# Altium footprint library Modules.PcbLib: 8 footprints
Each footprint in its own frame and in the unit in brackets; x right, y up, seen from the top. Pads: shape width x height; smd on the part's side, far side on the other; paste and mask are expansions set on the pad; w line width, h text height; cw(c..) or ccw(c..) is an arc to the next point about the centre after c.
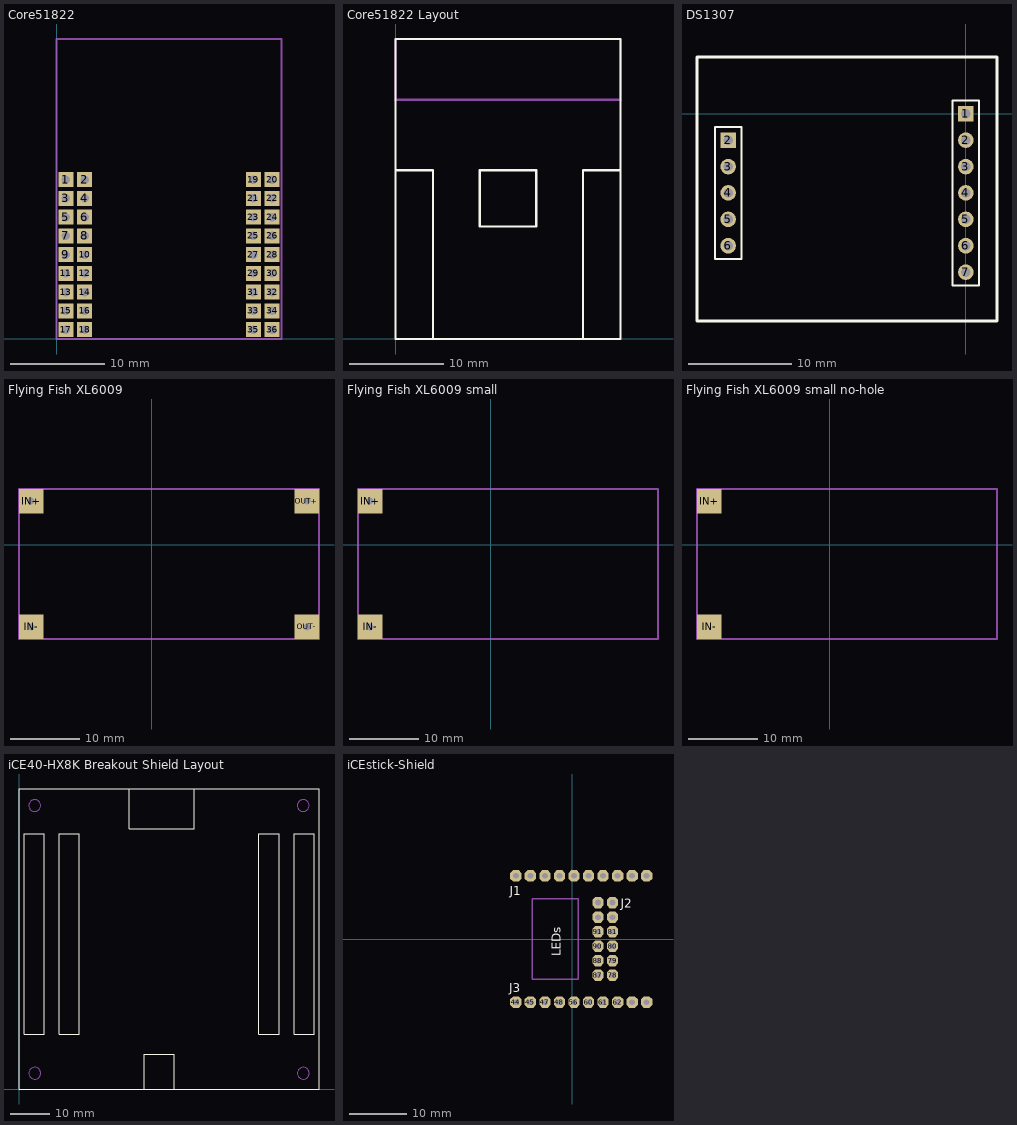
[diagram p0: the footprints below, top view; thin cyan lines are the x and y axes]

## Core51822 [mm]
pads (36):
  rect 1.6x1.6 hole 0.9: 1(1,17) 2(3,17) 3(1,15) 4(3,15) 5(1,13) 6(3,13) 7(1,11) 8(3,11) 9(1,9) 10(3,9) 11(1,7) 12(3,7) 13(1,5) 14(3,5) 15(1,3) 16(3,3) 17(1,1) 18(3,1) 19(21,17) 20(23,17) 21(21,15) 22(23,15) 23(21,13) 24(23,13) 25(21,11) 26(23,11) 27(21,9) 28(23,9) 29(21,7) 30(23,7) 31(21,5) 32(23,5) 33(21,3) 34(23,3) 35(21,1) 36(23,1)
Mechanical 1:
  lines w0.254: 0,0 0,32 24,32 24,0 0,0

## Core51822 Layout [mm]
Top Overlay:
  lines w0.254: 0,18 4,18 4,0 ; 20,0 20,18 24,18 ; 0,0 0,32 24,32 24,0 0,0 ; 9,12 15,12 15,18 9,18 9,12
Mechanical 12:
  lines w0.254: 0,25.5 0,32 24,32 24,25.5 0,25.5

## DS1307 [mm]
pads (12):
  rect 1.5x1.5 hole 0.9: 1(0,0) 2(-22.87,-2.54)
  round 1.5 hole 0.9: 2(0,-2.54) 3(-22.87,-5.08) 3(0,-5.08) 4(-22.87,-7.62) 4(0,-7.62) 5(-22.87,-10.16) 5(0,-10.16) 6(-22.87,-12.7) 6(0,-12.7) 7(0,-15.24)
Top Overlay:
  lines w0.2: -24.14,-13.97 -21.6,-13.97 -21.6,-1.27 -24.14,-1.27 -24.14,-13.97 ; -1.27,-16.51 1.27,-16.51 1.27,1.27 -1.27,1.27 -1.27,-16.51
  lines w0.25: -22.9,5.46 -25.87,5.46 ; -25.87,5.46 -25.87,-19.94 3,-19.94 3,5.46 -25.87,5.46

## Flying Fish XL6009 [mm]
pads (4):
  rect 3.5x3.5 hole 1: IN+(-17.25,6.25) IN-(-17.25,-11.75) OUT+(22.25,6.25) OUT-(22.25,-11.75)
Mechanical 1:
  lines w0.254: -19,-13.5 -19,8 24,8 24,-13.5 -19,-13.5

## Flying Fish XL6009 small [mm]
pads (2):
  rect 3.5x3.5 hole 1: IN+(-17.25,6.25) IN-(-17.25,-11.75)
Mechanical 1:
  lines w0.254: -19,-13.5 24,-13.5 24,8 -19,8 -19,-13.5

## Flying Fish XL6009 small no-hole [mm]
pads (2):
  rect 3.5x3.5 all layers, no hole: IN+(-17.25,6.25) IN-(-17.25,-11.75)
Mechanical 1:
  lines w0.254: -19,-13.5 -19,8 24,8 24,-13.5 -19,-13.5

## iCE40-HX8K Breakout Shield Layout [mm]
Top Overlay:
  lines w0.254: 27.94,76.2 27.94,66.04 44.45,66.04 44.45,76.2 ; 31.75,0 31.75,8.89 39.37,8.89 39.37,0 ; 0,0 0,76.2 76.2,76.2 76.2,0 0,0 ; 1.27,13.97 1.27,64.77 6.35,64.77 6.35,13.97 1.27,13.97 ; 10.16,13.97 15.24,13.97 15.24,64.77 10.16,64.77 10.16,13.97 ; 60.96,13.97 60.96,64.77 66.04,64.77 66.04,13.97 60.96,13.97 ; 69.85,13.97 74.93,13.97 74.93,64.77 69.85,64.77 69.85,13.97
Mechanical 12:
  circle w0.254: c72.2,72 r1.5
  circle w0.254: c4,72 r1.5
  circle w0.254: c72.2,4 r1.5
  circle w0.254: c4,4 r1.5

## iCEstick-Shield [mm]
pads (32):
  oct 2x2 hole 1: 3V3(4.5,6.37) 3V3(7.04,6.37) 3V3(13,-11.05) 3V3(13,11.05) 44(-9.86,-11.05) 45(-7.32,-11.05) 47(-4.78,-11.05) 48(-2.24,-11.05) 56(0.3,-11.05) 60(2.84,-11.05) 61(5.38,-11.05) 62(7.92,-11.05) 78(7.04,-6.33) 79(7.04,-3.79) 80(7.04,-1.25) 81(7.04,1.29) 87(4.5,-6.33) 88(4.5,-3.79) 90(4.5,-1.25) 91(4.5,1.29) 112(7.92,11.05) 113(5.38,11.05) 114(2.84,11.05) 115(0.3,11.05) 116(-2.24,11.05) 117(-4.78,11.05) 118(-7.32,11.05) 119(-9.86,11.05) GND(4.5,3.83) GND(7.04,3.83) GND(10.46,-11.05) GND(10.46,11.05)
Top Overlay:
  text "LEDs" at -2,-3 h1.52
  text "J3" at -11,-9.35 h1.52
  text "J1" at -10.9,7.7 h1.52
  text "J2" at 8.5,5.5 h1.52
Bottom Overlay:
  lines w0.254: -37.5,-13 15,-13 15,13 -37.5,13
Mechanical 12:
  lines w0.254: -7,-7 -7,7 1,7 1,-7 -7,-7
3D body "DS1023-1x10SF11.stp": height 2, standoff -9.5, extent -11.53,-12.32 14.67,-9.78
3D body "DS1023-1x10SF11.stp": height 2, standoff -9.5, extent -11.53,9.78 14.67,12.32
3D body "DS1021-2x6S61.stp": height 2, standoff -9.6, extent 3.23,-7.6 8.31,7.64